# Altium integrated library WE-PD SMD Shielded Power Inductor.IntLib: 278 symbols (part 2 of 3)
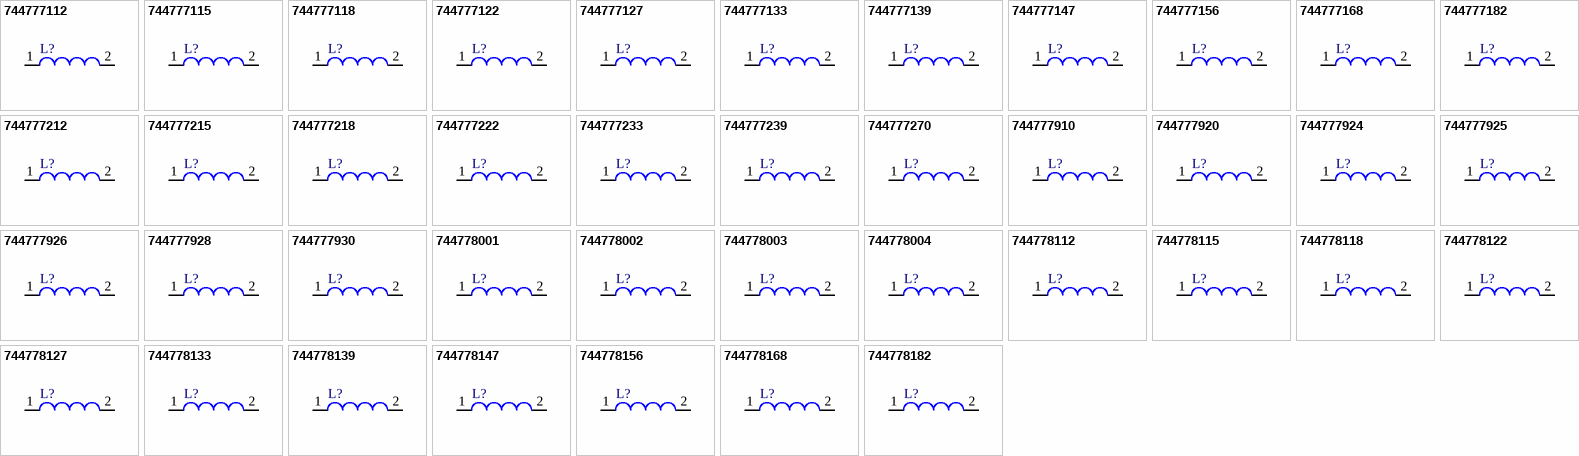
[diagram p7: symbols 744777112 to 744778182]

## 744777233
designator L?
SMD-Shielded Power Inductor WE-PD, L = 330 µH; PartNumber: 744777233; Inductance: 330 µH; DatasheetVersion: ver 2, Oct-2004; PackageReference: WE-PD-M; PackageDescription: SMD Inductor, 2-Leads, Body 7.3 x 7.3 mm; ComponentLink1Description: Manufacturer URL; ComponentLink1URL: http://www.we-online.com; ComponentLink2Description: Datasheet; ComponentLink2URL: http://www.we-online.de/katalog/media/pdf/744777233.pdf
footprint WE-PD-M (SMD Inductor, 2-Leads, Body 7.3x7.3x4.5 mm)
pins: 1, 2

## 744777239
designator L?
SMD-Shielded Power Inductor WE-PD, L = 390 µH; PartNumber: 744777239; Inductance: 390 µH; DatasheetVersion: ver 2, Oct-2004; PackageReference: WE-PD-M; PackageDescription: SMD Inductor, 2-Leads, Body 7.3 x 7.3 mm; ComponentLink1Description: Manufacturer URL; ComponentLink1URL: http://www.we-online.com; ComponentLink2Description: Datasheet; ComponentLink2URL: http://www.we-online.de/katalog/media/pdf/744777239.pdf
footprint WE-PD-M (SMD Inductor, 2-Leads, Body 7.3x7.3x4.5 mm)
pins: 1, 2

## 744777270
designator L?
SMD-Shielded Power Inductor WE-PD, L = 270 µH; PartNumber: 744777270; Inductance: 270 µH; DatasheetVersion: ver 2, Oct-2004; PackageReference: WE-PD-M; PackageDescription: SMD Inductor, 2-Leads, Body 7.3 x 7.3 mm; ComponentLink1Description: Manufacturer URL; ComponentLink1URL: http://www.we-online.com; ComponentLink2Description: Datasheet; ComponentLink2URL: http://www.we-online.de/katalog/media/pdf/744777270.pdf
footprint WE-PD-M (SMD Inductor, 2-Leads, Body 7.3x7.3x4.5 mm)
pins: 1, 2

## 744777910
designator L?
SMD-Shielded Power Inductor WE-PD, L = 10.0 µH; PartNumber: 744777910; Inductance: 10.0 µH; DatasheetVersion: ver 10, Jan-2008; PackageReference: WE-PD-M-PB; PackageDescription: SMD Inductor, 2-Leads, Body 7.3 x 7.3 mm; ComponentLink1Description: Manufacturer URL; ComponentLink1URL: http://www.we-online.com; ComponentLink2Description: Datasheet; ComponentLink2URL: http://www.we-online.de/katalog/media/pdf/744777910.pdf
footprint WE-PD-M-PB (SMD Inductor, 2-Leads, Body 7.3x7.3x4.5 mm)
pins: 1, 2

## 744777920
designator L?
SMD-Shielded Power Inductor WE-PD, L = 100 µH; PartNumber: 744777920; Inductance: 100 µH; DatasheetVersion: ver 10, Jan-2008; PackageReference: WE-PD-M-PB; PackageDescription: SMD Inductor, 2-Leads, Body 7.3 x 7.3 mm; ComponentLink1Description: Manufacturer URL; ComponentLink1URL: http://www.we-online.com; ComponentLink2Description: Datasheet; ComponentLink2URL: http://www.we-online.de/katalog/media/pdf/744777920.pdf
footprint WE-PD-M-PB (SMD Inductor, 2-Leads, Body 7.3x7.3x4.5 mm)
pins: 1, 2

## 744777924
designator L?
SMD-Shielded Power Inductor WE-PD, L = 470 µH; PartNumber: 744777924; Inductance: 470 µH; DatasheetVersion: ver 10, Jan-2008; PackageReference: WE-PD-M-PB; PackageDescription: SMD Inductor, 2-Leads, Body 7.3 x 7.3 mm; ComponentLink1Description: Manufacturer URL; ComponentLink1URL: http://www.we-online.com; ComponentLink2Description: Datasheet; ComponentLink2URL: http://www.we-online.de/katalog/media/pdf/744777924.pdf
footprint WE-PD-M-PB (SMD Inductor, 2-Leads, Body 7.3x7.3x4.5 mm)
pins: 1, 2

## 744777925
designator L?
SMD-Shielded Power Inductor WE-PD, L = 560 µH; PartNumber: 744777925; Inductance: 560 µH; DatasheetVersion: ver 10, Jan-2008; PackageReference: WE-PD-M-PB; PackageDescription: SMD Inductor, 2-Leads, Body 7.3 x 7.3 mm; ComponentLink1Description: Manufacturer URL; ComponentLink1URL: http://www.we-online.com; ComponentLink2Description: Datasheet; ComponentLink2URL: http://www.we-online.de/katalog/media/pdf/744777925.pdf
footprint WE-PD-M-PB (SMD Inductor, 2-Leads, Body 7.3x7.3x4.5 mm)
pins: 1, 2

## 744777926
designator L?
SMD-Shielded Power Inductor WE-PD, L = 680 µH; PartNumber: 744777926; Inductance: 680 µH; DatasheetVersion: ver 10, Jan-2008; PackageReference: WE-PD-M-PB; PackageDescription: SMD Inductor, 2-Leads, Body 7.3 x 7.3 mm; ComponentLink1Description: Manufacturer URL; ComponentLink1URL: http://www.we-online.com; ComponentLink2Description: Datasheet; ComponentLink2URL: http://www.we-online.de/katalog/media/pdf/744777926.pdf
footprint WE-PD-M-PB (SMD Inductor, 2-Leads, Body 7.3x7.3x4.5 mm)
pins: 1, 2

## 744777928
designator L?
SMD-Shielded Power Inductor WE-PD, L = 820 µH; PartNumber: 744777928; Inductance: 820 µH; DatasheetVersion: ver 10, Jan-2008; PackageReference: WE-PD-M-PB; PackageDescription: SMD Inductor, 2-Leads, Body 7.3 x 7.3 mm; ComponentLink1Description: Manufacturer URL; ComponentLink1URL: http://www.we-online.com; ComponentLink2Description: Datasheet; ComponentLink2URL: http://www.we-online.de/katalog/media/pdf/744777928.pdf
footprint WE-PD-M-PB (SMD Inductor, 2-Leads, Body 7.3x7.3x4.5 mm)
pins: 1, 2

## 744777930
designator L?
SMD-Shielded Power Inductor WE-PD, L = 1000 µH; PartNumber: 744777930; Inductance: 1000 µH; DatasheetVersion: ver 10, Jan-2008; PackageReference: WE-PD-M-PB; PackageDescription: SMD Inductor, 2-Leads, Body 7.3 x 7.3 mm; ComponentLink1Description: Manufacturer URL; ComponentLink1URL: http://www.we-online.com; ComponentLink2Description: Datasheet; ComponentLink2URL: http://www.we-online.de/katalog/media/pdf/744777930.pdf
footprint WE-PD-M-PB (SMD Inductor, 2-Leads, Body 7.3x7.3x4.5 mm)
pins: 1, 2

## 744778001
designator L?
SMD-Shielded Power Inductor WE-PD, L = 1.00 µH; PartNumber: 744778001; Inductance: 1.00 µH; DatasheetVersion: ver 5, Oct-2004; PackageReference: WE-PD-S; PackageDescription: SMD Inductor, 2-Leads, Body 7.3 x 7.3 mm; ComponentLink1Description: Manufacturer URL; ComponentLink1URL: http://www.we-online.com; ComponentLink2Description: Datasheet; ComponentLink2URL: http://www.we-online.de/katalog/media/pdf/744778001.pdf
footprint WE-PD-S (SMD Inductor, 2-Leads, Body 7.3x7.3x3.4 mm)
pins: 1, 2

## 744778002
designator L?
SMD-Shielded Power Inductor WE-PD, L = 2.20 µH; PartNumber: 744778002; Inductance: 2.20 µH; DatasheetVersion: ver 5, Oct-2004; PackageReference: WE-PD-S; PackageDescription: SMD Inductor, 2-Leads, Body 7.3 x 7.3 mm; ComponentLink1Description: Manufacturer URL; ComponentLink1URL: http://www.we-online.com; ComponentLink2Description: Datasheet; ComponentLink2URL: http://www.we-online.de/katalog/media/pdf/744778002.pdf
footprint WE-PD-S (SMD Inductor, 2-Leads, Body 7.3x7.3x3.4 mm)
pins: 1, 2

## 744778003
designator L?
SMD-Shielded Power Inductor WE-PD, L = 3.30 µH; PartNumber: 744778003; Inductance: 3.30 µH; DatasheetVersion: ver 1, Nov-2007; PackageReference: WE-PD-S; PackageDescription: SMD Inductor, 2-Leads, Body 7.3 x 7.3 mm; ComponentLink1Description: Manufacturer URL; ComponentLink1URL: http://www.we-online.com; ComponentLink2Description: Datasheet; ComponentLink2URL: http://www.we-online.de/katalog/media/pdf/744778003.pdf
footprint WE-PD-S (SMD Inductor, 2-Leads, Body 7.3x7.3x3.4 mm)
pins: 1, 2

## 744778004
designator L?
SMD-Shielded Power Inductor WE-PD, L = 4.70 µH; PartNumber: 744778004; Inductance: 4.70 µH; DatasheetVersion: ver 5, Oct-2004; PackageReference: WE-PD-S; PackageDescription: SMD Inductor, 2-Leads, Body 7.3 x 7.3 mm; ComponentLink1Description: Manufacturer URL; ComponentLink1URL: http://www.we-online.com; ComponentLink2Description: Datasheet; ComponentLink2URL: http://www.we-online.de/katalog/media/pdf/744778004.pdf
footprint WE-PD-S (SMD Inductor, 2-Leads, Body 7.3x7.3x3.4 mm)
pins: 1, 2

## 744778112
designator L?
SMD-Shielded Power Inductor WE-PD, L = 12.0 µH; PartNumber: 744778112; Inductance: 12.0 µH; DatasheetVersion: ver 5, Oct-2004; PackageReference: WE-PD-S; PackageDescription: SMD Inductor, 2-Leads, Body 7.3 x 7.3 mm; ComponentLink1Description: Manufacturer URL; ComponentLink1URL: http://www.we-online.com; ComponentLink2Description: Datasheet; ComponentLink2URL: http://www.we-online.de/katalog/media/pdf/744778112.pdf
footprint WE-PD-S (SMD Inductor, 2-Leads, Body 7.3x7.3x3.4 mm)
pins: 1, 2

## 744778115
designator L?
SMD-Shielded Power Inductor WE-PD, L = 15.0 µH; PartNumber: 744778115; Inductance: 15.0 µH; DatasheetVersion: ver 5, Oct-2004; PackageReference: WE-PD-S; PackageDescription: SMD Inductor, 2-Leads, Body 7.3 x 7.3 mm; ComponentLink1Description: Manufacturer URL; ComponentLink1URL: http://www.we-online.com; ComponentLink2Description: Datasheet; ComponentLink2URL: http://www.we-online.de/katalog/media/pdf/744778115.pdf
footprint WE-PD-S (SMD Inductor, 2-Leads, Body 7.3x7.3x3.4 mm)
pins: 1, 2

## 744778118
designator L?
SMD-Shielded Power Inductor WE-PD, L = 18.0 µH; PartNumber: 744778118; Inductance: 18.0 µH; DatasheetVersion: ver 5, Oct-2004; PackageReference: WE-PD-S; PackageDescription: SMD Inductor, 2-Leads, Body 7.3 x 7.3 mm; ComponentLink1Description: Manufacturer URL; ComponentLink1URL: http://www.we-online.com; ComponentLink2Description: Datasheet; ComponentLink2URL: http://www.we-online.de/katalog/media/pdf/744778118.pdf
footprint WE-PD-S (SMD Inductor, 2-Leads, Body 7.3x7.3x3.4 mm)
pins: 1, 2

## 744778122
designator L?
SMD-Shielded Power Inductor WE-PD, L = 22.0 µH; PartNumber: 744778122; Inductance: 22.0 µH; DatasheetVersion: ver 5, Oct-2004; PackageReference: WE-PD-S; PackageDescription: SMD Inductor, 2-Leads, Body 7.3 x 7.3 mm; ComponentLink1Description: Manufacturer URL; ComponentLink1URL: http://www.we-online.com; ComponentLink2Description: Datasheet; ComponentLink2URL: http://www.we-online.de/katalog/media/pdf/744778122.pdf
footprint WE-PD-S (SMD Inductor, 2-Leads, Body 7.3x7.3x3.4 mm)
pins: 1, 2

## 744778127
designator L?
SMD-Shielded Power Inductor WE-PD, L = 27.0 µH; PartNumber: 744778127; Inductance: 27.0 µH; DatasheetVersion: ver 5, Oct-2004; PackageReference: WE-PD-S; PackageDescription: SMD Inductor, 2-Leads, Body 7.3 x 7.3 mm; ComponentLink1Description: Manufacturer URL; ComponentLink1URL: http://www.we-online.com; ComponentLink2Description: Datasheet; ComponentLink2URL: http://www.we-online.de/katalog/media/pdf/744778127.pdf
footprint WE-PD-S (SMD Inductor, 2-Leads, Body 7.3x7.3x3.4 mm)
pins: 1, 2

## 744778133
designator L?
SMD-Shielded Power Inductor WE-PD, L = 33.0 µH; PartNumber: 744778133; Inductance: 33.0 µH; DatasheetVersion: ver 5, Oct-2004; PackageReference: WE-PD-S; PackageDescription: SMD Inductor, 2-Leads, Body 7.3 x 7.3 mm; ComponentLink1Description: Manufacturer URL; ComponentLink1URL: http://www.we-online.com; ComponentLink2Description: Datasheet; ComponentLink2URL: http://www.we-online.de/katalog/media/pdf/744778133.pdf
footprint WE-PD-S (SMD Inductor, 2-Leads, Body 7.3x7.3x3.4 mm)
pins: 1, 2

## 744778139
designator L?
SMD-Shielded Power Inductor WE-PD, L = 39.0 µH; PartNumber: 744778139; Inductance: 39.0 µH; DatasheetVersion: ver 5, Oct-2004; PackageReference: WE-PD-S; PackageDescription: SMD Inductor, 2-Leads, Body 7.3 x 7.3 mm; ComponentLink1Description: Manufacturer URL; ComponentLink1URL: http://www.we-online.com; ComponentLink2Description: Datasheet; ComponentLink2URL: http://www.we-online.de/katalog/media/pdf/744778139.pdf
footprint WE-PD-S (SMD Inductor, 2-Leads, Body 7.3x7.3x3.4 mm)
pins: 1, 2

## 744778147
designator L?
SMD-Shielded Power Inductor WE-PD, L = 47.0 µH; PartNumber: 744778147; Inductance: 47.0 µH; DatasheetVersion: ver 5, Oct-2004; PackageReference: WE-PD-S; PackageDescription: SMD Inductor, 2-Leads, Body 7.3 x 7.3 mm; ComponentLink1Description: Manufacturer URL; ComponentLink1URL: http://www.we-online.com; ComponentLink2Description: Datasheet; ComponentLink2URL: http://www.we-online.de/katalog/media/pdf/744778147.pdf
footprint WE-PD-S (SMD Inductor, 2-Leads, Body 7.3x7.3x3.4 mm)
pins: 1, 2

## 744778156
designator L?
SMD-Shielded Power Inductor WE-PD, L = 56.0 µH; PartNumber: 744778156; Inductance: 56.0 µH; DatasheetVersion: ver 5, Oct-2004; PackageReference: WE-PD-S; PackageDescription: SMD Inductor, 2-Leads, Body 7.3 x 7.3 mm; ComponentLink1Description: Manufacturer URL; ComponentLink1URL: http://www.we-online.com; ComponentLink2Description: Datasheet; ComponentLink2URL: http://www.we-online.de/katalog/media/pdf/744778156.pdf
footprint WE-PD-S (SMD Inductor, 2-Leads, Body 7.3x7.3x3.4 mm)
pins: 1, 2

## 744778168
designator L?
SMD-Shielded Power Inductor WE-PD, L = 68.0 µH; PartNumber: 744778168; Inductance: 68.0 µH; DatasheetVersion: ver 5, Oct-2004; PackageReference: WE-PD-S; PackageDescription: SMD Inductor, 2-Leads, Body 7.3 x 7.3 mm; ComponentLink1Description: Manufacturer URL; ComponentLink1URL: http://www.we-online.com; ComponentLink2Description: Datasheet; ComponentLink2URL: http://www.we-online.de/katalog/media/pdf/744778168.pdf
footprint WE-PD-S (SMD Inductor, 2-Leads, Body 7.3x7.3x3.4 mm)
pins: 1, 2

## 744778182
designator L?
SMD-Shielded Power Inductor WE-PD, L = 82.0 µH; PartNumber: 744778182; Inductance: 82.0 µH; DatasheetVersion: ver 5, Oct-2004; PackageReference: WE-PD-S; PackageDescription: SMD Inductor, 2-Leads, Body 7.3 x 7.3 mm; ComponentLink1Description: Manufacturer URL; ComponentLink1URL: http://www.we-online.com; ComponentLink2Description: Datasheet; ComponentLink2URL: http://www.we-online.de/katalog/media/pdf/744778182.pdf
footprint WE-PD-S (SMD Inductor, 2-Leads, Body 7.3x7.3x3.4 mm)
pins: 1, 2

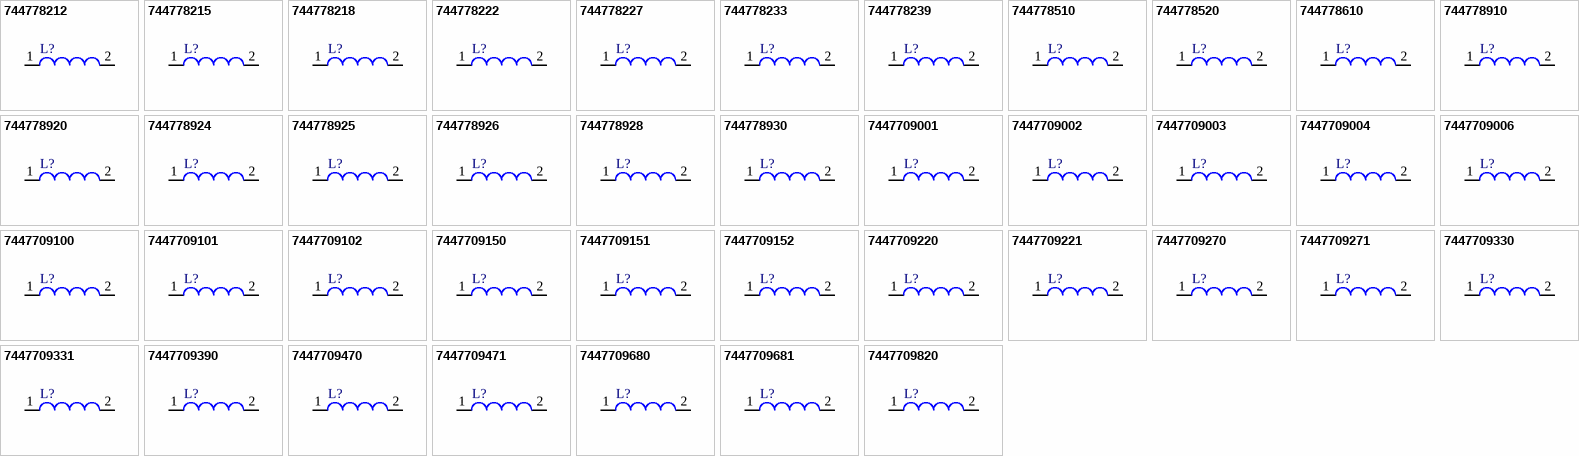
[diagram p3: symbols 744778212 to 7447709820]

## 744778212
designator L?
SMD-Shielded Power Inductor WE-PD, L = 120 µH; PartNumber: 744778212; Inductance: 120 µH; DatasheetVersion: ver 5, Oct-2004; PackageReference: WE-PD-S; PackageDescription: SMD Inductor, 2-Leads, Body 7.3 x 7.3 mm; ComponentLink1Description: Manufacturer URL; ComponentLink1URL: http://www.we-online.com; ComponentLink2Description: Datasheet; ComponentLink2URL: http://www.we-online.de/katalog/media/pdf/744778212.pdf
footprint WE-PD-S (SMD Inductor, 2-Leads, Body 7.3x7.3x3.4 mm)
pins: 1, 2

## 744778215
designator L?
SMD-Shielded Power Inductor WE-PD, L = 150 µH; PartNumber: 744778215; Inductance: 150 µH; DatasheetVersion: ver 5, Oct-2004; PackageReference: WE-PD-S; PackageDescription: SMD Inductor, 2-Leads, Body 7.3 x 7.3 mm; ComponentLink1Description: Manufacturer URL; ComponentLink1URL: http://www.we-online.com; ComponentLink2Description: Datasheet; ComponentLink2URL: http://www.we-online.de/katalog/media/pdf/744778215.pdf
footprint WE-PD-S (SMD Inductor, 2-Leads, Body 7.3x7.3x3.4 mm)
pins: 1, 2

## 744778218
designator L?
SMD-Shielded Power Inductor WE-PD, L = 180 µH; PartNumber: 744778218; Inductance: 180 µH; DatasheetVersion: ver 5, Oct-2004; PackageReference: WE-PD-S; PackageDescription: SMD Inductor, 2-Leads, Body 7.3 x 7.3 mm; ComponentLink1Description: Manufacturer URL; ComponentLink1URL: http://www.we-online.com; ComponentLink2Description: Datasheet; ComponentLink2URL: http://www.we-online.de/katalog/media/pdf/744778218.pdf
footprint WE-PD-S (SMD Inductor, 2-Leads, Body 7.3x7.3x3.4 mm)
pins: 1, 2

## 744778222
designator L?
SMD-Shielded Power Inductor WE-PD, L = 220 µH; PartNumber: 744778222; Inductance: 220 µH; DatasheetVersion: ver 5, Oct-2004; PackageReference: WE-PD-S; PackageDescription: SMD Inductor, 2-Leads, Body 7.3 x 7.3 mm; ComponentLink1Description: Manufacturer URL; ComponentLink1URL: http://www.we-online.com; ComponentLink2Description: Datasheet; ComponentLink2URL: http://www.we-online.de/katalog/media/pdf/744778222.pdf
footprint WE-PD-S (SMD Inductor, 2-Leads, Body 7.3x7.3x3.4 mm)
pins: 1, 2

## 744778227
designator L?
SMD-Shielded Power Inductor WE-PD, L=270 µH; PartNumber: 744778227; Inductance: 270 µH; PackageReference: WE-PD-S; PackageDescription: SMD Inductor, 2-Leads, Body 7.3 x 7.3 mm; ComponentLink1Description: Manufacturer URL; ComponentLink1URL: http://www.we-online.com; ComponentLink2Description: Datasheet; ComponentLink2URL: http://www.we-online.de/katalog/media/pdf/744778227.pdf
footprint WE-PD-S (SMD Inductor, 2-Leads, Body 7.3x7.3x3.4 mm)
pins: 1, 2

## 744778233
designator L?
SMD-Shielded Power Inductor WE-PD, L = 330 µH; PartNumber: 744778233; Inductance: 330 µH; DatasheetVersion: ver 6, Jan-2006; PackageReference: WE-PD-S; PackageDescription: SMD Inductor, 2-Leads, Body 7.3 x 7.3 mm; ComponentLink1Description: Manufacturer URL; ComponentLink1URL: http://www.we-online.com; ComponentLink2Description: Datasheet; ComponentLink2URL: http://www.we-online.de/katalog/media/pdf/744778233.pdf
footprint WE-PD-S (SMD Inductor, 2-Leads, Body 7.3x7.3x3.4 mm)
pins: 1, 2

## 744778239
designator L?
SMD-Shielded Power Inductor WE-PD, L = 390 µH; PartNumber: 744778239; Inductance: 390 µH; DatasheetVersion: ver 5, Oct-2004; PackageReference: WE-PD-S; PackageDescription: SMD Inductor, 2-Leads, Body 7.3 x 7.3 mm; ComponentLink1Description: Manufacturer URL; ComponentLink1URL: http://www.we-online.com; ComponentLink2Description: Datasheet; ComponentLink2URL: http://www.we-online.de/katalog/media/pdf/744778239.pdf
footprint WE-PD-S (SMD Inductor, 2-Leads, Body 7.3x7.3x3.4 mm)
pins: 1, 2

## 744778510
designator L?
SMD-Shielded Power Inductor WE-PD, L = 10.0 µH; PartNumber: 744778510; Inductance: 10.0 µH; DatasheetVersion: ver 2, Oct-2004; PackageReference: WE-PD-XS-PB; PackageDescription: SMD Inductor, 2-Leads, Body 5.9 x 6.2 mm; ComponentLink1Description: Manufacturer URL; ComponentLink1URL: http://www.we-online.com; ComponentLink2Description: Datasheet; ComponentLink2URL: http://www.we-online.de/katalog/media/pdf/744778510.pdf
footprint WE-PD-XS-PB (SMD Inductor, 2-Leads, Body 5.9x6.2x3.3 mm)
pins: 1, 2

## 744778520
designator L?
SMD-Shielded Power Inductor WE-PD, L = 100 µH; PartNumber: 744778520; Inductance: 100 µH; DatasheetVersion: ver 2, Oct-2004; PackageReference: WE-PD-XS-PB; PackageDescription: SMD Inductor, 2-Leads, Body 5.9 x 6.2 mm; ComponentLink1Description: Manufacturer URL; ComponentLink1URL: http://www.we-online.com; ComponentLink2Description: Datasheet; ComponentLink2URL: http://www.we-online.de/katalog/media/pdf/744778520.pdf
footprint WE-PD-XS-PB (SMD Inductor, 2-Leads, Body 5.9x6.2x3.3 mm)
pins: 1, 2

## 744778610
designator L?
SMD-Shielded Power Inductor WE-PD, L = 10.0 µH; PartNumber: 744778610; Inductance: 10.0 µH; DatasheetVersion: ver 1, Sep-2008; PackageReference: WE-PD-XSH-PB; PackageDescription: SMD Inductor, 2-Leads, Body 5.9 x 6.2 mm; ComponentLink1Description: Manufacturer URL; ComponentLink1URL: http://www.we-online.com; ComponentLink2Description: Datasheet; ComponentLink2URL: http://www.we-online.de/katalog/media/pdf/744778610.pdf
footprint WE-PD-XSH-PB (SMD Inductor, 2-Leads, Body 5.9x6.2x5.1 mm)
pins: 1, 2

## 744778910
designator L?
SMD-Shielded Power Inductor WE-PD, L = 10.0 µH; PartNumber: 744778910; Inductance: 10.0 µH; DatasheetVersion: ver 5, Jan-2006; PackageReference: WE-PD-S-PB; PackageDescription: SMD Inductor, 2-Leads, Body 7.3 x 7.3 mm; ComponentLink1Description: Manufacturer URL; ComponentLink1URL: http://www.we-online.com; ComponentLink2Description: Datasheet; ComponentLink2URL: http://www.we-online.de/katalog/media/pdf/744778910.pdf
footprint WE-PD-S-PB (SMD Inductor, 2-Leads, Body 7.3x7.3x3.5 mm)
pins: 1, 2

## 744778920
designator L?
SMD-Shielded Power Inductor WE-PD, L = 100 µH; PartNumber: 744778920; Inductance: 100 µH; DatasheetVersion: ver 5, Jan-2006; PackageReference: WE-PD-S-PB; PackageDescription: SMD Inductor, 2-Leads, Body 7.3 x 7.3 mm; ComponentLink1Description: Manufacturer URL; ComponentLink1URL: http://www.we-online.com; ComponentLink2Description: Datasheet; ComponentLink2URL: http://www.we-online.de/katalog/media/pdf/744778920.pdf
footprint WE-PD-S-PB (SMD Inductor, 2-Leads, Body 7.3x7.3x3.5 mm)
pins: 1, 2

## 744778924
designator L?
SMD-Shielded Power Inductor WE-PD, L = 470 µH; PartNumber: 744778924; Inductance: 470 µH; DatasheetVersion: ver 5, Jan-2006; PackageReference: WE-PD-S-PB; PackageDescription: SMD Inductor, 2-Leads, Body 7.3 x 7.3 mm; ComponentLink1Description: Manufacturer URL; ComponentLink1URL: http://www.we-online.com; ComponentLink2Description: Datasheet; ComponentLink2URL: http://www.we-online.de/katalog/media/pdf/744778924.pdf
footprint WE-PD-S-PB (SMD Inductor, 2-Leads, Body 7.3x7.3x3.5 mm)
pins: 1, 2

## 744778925
designator L?
SMD-Shielded Power Inductor WE-PD, L = 560 µH; PartNumber: 744778925; Inductance: 560 µH; DatasheetVersion: ver 5, Jan-2006; PackageReference: WE-PD-S-PB; PackageDescription: SMD Inductor, 2-Leads, Body 7.3 x 7.3 mm; ComponentLink1Description: Manufacturer URL; ComponentLink1URL: http://www.we-online.com; ComponentLink2Description: Datasheet; ComponentLink2URL: http://www.we-online.de/katalog/media/pdf/744778925.pdf
footprint WE-PD-S-PB (SMD Inductor, 2-Leads, Body 7.3x7.3x3.5 mm)
pins: 1, 2

## 744778926
designator L?
SMD-Shielded Power Inductor WE-PD, L = 680 µH; PartNumber: 744778926; Inductance: 680 µH; DatasheetVersion: ver 5, Jan-2006; PackageReference: WE-PD-S-PB; PackageDescription: SMD Inductor, 2-Leads, Body 7.3 x 7.3 mm; ComponentLink1Description: Manufacturer URL; ComponentLink1URL: http://www.we-online.com; ComponentLink2Description: Datasheet; ComponentLink2URL: http://www.we-online.de/katalog/media/pdf/744778926.pdf
footprint WE-PD-S-PB (SMD Inductor, 2-Leads, Body 7.3x7.3x3.5 mm)
pins: 1, 2

## 744778928
designator L?
SMD-Shielded Power Inductor WE-PD, L = 820 µH; PartNumber: 744778928; Inductance: 820 µH; DatasheetVersion: ver 5, Jan-2006; PackageReference: WE-PD-S-PB; PackageDescription: SMD Inductor, 2-Leads, Body 7.3 x 7.3 mm; ComponentLink1Description: Manufacturer URL; ComponentLink1URL: http://www.we-online.com; ComponentLink2Description: Datasheet; ComponentLink2URL: http://www.we-online.de/katalog/media/pdf/744778928.pdf
footprint WE-PD-S-PB (SMD Inductor, 2-Leads, Body 7.3x7.3x3.5 mm)
pins: 1, 2

## 744778930
designator L?
SMD-Shielded Power Inductor WE-PD, L = 1000 µH; PartNumber: 744778930; Inductance: 1000 µH; DatasheetVersion: ver 5, Jan-2006; PackageReference: WE-PD-S-PB; PackageDescription: SMD Inductor, 2-Leads, Body 7.3 x 7.3 mm; ComponentLink1Description: Manufacturer URL; ComponentLink1URL: http://www.we-online.com; ComponentLink2Description: Datasheet; ComponentLink2URL: http://www.we-online.de/katalog/media/pdf/744778930.pdf
footprint WE-PD-S-PB (SMD Inductor, 2-Leads, Body 7.3x7.3x3.5 mm)
pins: 1, 2

## 7447709001
designator L?
SMD-Shielded Power Inductor WE-PD, L = 1.00 µH; PartNumber: 7447709001; Inductance: 1.00 µH; DatasheetVersion: ver 1, Oct-2004; PackageReference: WE-PD-XXL; PackageDescription: SMD Inductor, 2-Leads, Body 12.0 x 12.0 mm; ComponentLink1Description: Manufacturer URL; ComponentLink1URL: http://www.we-online.com; ComponentLink2Description: Datasheet; ComponentLink2URL: http://www.we-online.de/katalog/media/pdf/7447709001.pdf
footprint WE-PD-XXL (SMD Inductor, 2-Leads, Body 12.0x12.0x10.0 mm)
pins: 1, 2

## 7447709002
designator L?
SMD-Shielded Power Inductor WE-PD, L = 2.20 µH; PartNumber: 7447709002; Inductance: 2.20 µH; DatasheetVersion: ver 1, Oct-2004; PackageReference: WE-PD-XXL; PackageDescription: SMD Inductor, 2-Leads, Body 12.0 x 12.0 mm; ComponentLink1Description: Manufacturer URL; ComponentLink1URL: http://www.we-online.com; ComponentLink2Description: Datasheet; ComponentLink2URL: http://www.we-online.de/katalog/media/pdf/7447709002.pdf
footprint WE-PD-XXL (SMD Inductor, 2-Leads, Body 12.0x12.0x10.0 mm)
pins: 1, 2

## 7447709003
designator L?
SMD-Shielded Power Inductor WE-PD, L = 3.50 µH; PartNumber: 7447709003; Inductance: 3.50 µH; DatasheetVersion: ver 1, Oct-2004; PackageReference: WE-PD-XXL; PackageDescription: SMD Inductor, 2-Leads, Body 12.0 x 12.0 mm; ComponentLink1Description: Manufacturer URL; ComponentLink1URL: http://www.we-online.com; ComponentLink2Description: Datasheet; ComponentLink2URL: http://www.we-online.de/katalog/media/pdf/7447709003.pdf
footprint WE-PD-XXL (SMD Inductor, 2-Leads, Body 12.0x12.0x10.0 mm)
pins: 1, 2

## 7447709004
designator L?
SMD-Shielded Power Inductor WE-PD, L = 4.70 µH; PartNumber: 7447709004; Inductance: 4.70 µH; DatasheetVersion: ver 1, Oct-2004; PackageReference: WE-PD-XXL; PackageDescription: SMD Inductor, 2-Leads, Body 12.0 x 12.0 mm; ComponentLink1Description: Manufacturer URL; ComponentLink1URL: http://www.we-online.com; ComponentLink2Description: Datasheet; ComponentLink2URL: http://www.we-online.de/katalog/media/pdf/7447709004.pdf
footprint WE-PD-XXL (SMD Inductor, 2-Leads, Body 12.0x12.0x10.0 mm)
pins: 1, 2

## 7447709006
designator L?
SMD-Shielded Power Inductor WE-PD, L = 6.80 µH; PartNumber: 7447709006; Inductance: 6.80 µH; DatasheetVersion: ver 1, Oct-2004; PackageReference: WE-PD-XXL; PackageDescription: SMD Inductor, 2-Leads, Body 12.0 x 12.0 mm; ComponentLink1Description: Manufacturer URL; ComponentLink1URL: http://www.we-online.com; ComponentLink2Description: Datasheet; ComponentLink2URL: http://www.we-online.de/katalog/media/pdf/7447709006.pdf
footprint WE-PD-XXL (SMD Inductor, 2-Leads, Body 12.0x12.0x10.0 mm)
pins: 1, 2

## 7447709100
designator L?
SMD-Shielded Power Inductor WE-PD, L = 10.0 µH; PartNumber: 7447709100; Inductance: 10.0 µH; DatasheetVersion: ver 1, Oct-2004; PackageReference: WE-PD-XXL; PackageDescription: SMD Inductor, 2-Leads, Body 12.0 x 12.0 mm; ComponentLink1Description: Manufacturer URL; ComponentLink1URL: http://www.we-online.com; ComponentLink2Description: Datasheet; ComponentLink2URL: http://www.we-online.de/katalog/media/pdf/7447709100.pdf
footprint WE-PD-XXL (SMD Inductor, 2-Leads, Body 12.0x12.0x10.0 mm)
pins: 1, 2

## 7447709101
designator L?
SMD-Shielded Power Inductor WE-PD, L = 100 µH; PartNumber: 7447709101; Inductance: 100 µH; DatasheetVersion: ver 1, Oct-2004; PackageReference: WE-PD-XXL; PackageDescription: SMD Inductor, 2-Leads, Body 12.0 x 12.0 mm; ComponentLink1Description: Manufacturer URL; ComponentLink1URL: http://www.we-online.com; ComponentLink2Description: Datasheet; ComponentLink2URL: http://www.we-online.de/katalog/media/pdf/7447709101.pdf
footprint WE-PD-XXL (SMD Inductor, 2-Leads, Body 12.0x12.0x10.0 mm)
pins: 1, 2

## 7447709102
designator L?
SMD-Shielded Power Inductor WE-PD, L = 1000 µH; PartNumber: 7447709102; Inductance: 1000 µH; DatasheetVersion: ver 1, Aug-2005; PackageReference: WE-PD-XXL; PackageDescription: SMD Inductor, 2-Leads, Body 12.0 x 12.0 mm; ComponentLink1Description: Manufacturer URL; ComponentLink1URL: http://www.we-online.com; ComponentLink2Description: Datasheet; ComponentLink2URL: http://www.we-online.de/katalog/media/pdf/7447709102.pdf
footprint WE-PD-XXL (SMD Inductor, 2-Leads, Body 12.0x12.0x10.0 mm)
pins: 1, 2

## 7447709150
designator L?
SMD-Shielded Power Inductor WE-PD, L = 15.0 µH; PartNumber: 7447709150; Inductance: 15.0 µH; DatasheetVersion: ver 4, Oct-2006; PackageReference: WE-PD-XXL; PackageDescription: SMD Inductor, 2-Leads, Body 12.0 x 12.0 mm; ComponentLink1Description: Manufacturer URL; ComponentLink1URL: http://www.we-online.com; ComponentLink2Description: Datasheet; ComponentLink2URL: http://www.we-online.de/katalog/media/pdf/7447709150.pdf
footprint WE-PD-XXL (SMD Inductor, 2-Leads, Body 12.0x12.0x10.0 mm)
pins: 1, 2

## 7447709151
designator L?
SMD-Shielded Power Inductor WE-PD, L = 150 µH; PartNumber: 7447709151; Inductance: 150 µH; DatasheetVersion: ver 1, Oct-2004; PackageReference: WE-PD-XXL; PackageDescription: SMD Inductor, 2-Leads, Body 12.0 x 12.0 mm; ComponentLink1Description: Manufacturer URL; ComponentLink1URL: http://www.we-online.com; ComponentLink2Description: Datasheet; ComponentLink2URL: http://www.we-online.de/katalog/media/pdf/7447709151.pdf
footprint WE-PD-XXL (SMD Inductor, 2-Leads, Body 12.0x12.0x10.0 mm)
pins: 1, 2

## 7447709152
designator L?
SMD-Shielded Power Inductor WE-PD, L = 1500 µH; PartNumber: 7447709152; Inductance: 1500 µH; DatasheetVersion: ver 1, Aug-2006; PackageReference: WE-PD-XXL; PackageDescription: SMD Inductor, 2-Leads, Body 12.0 x 12.0 mm; ComponentLink1Description: Manufacturer URL; ComponentLink1URL: http://www.we-online.com; ComponentLink2Description: Datasheet; ComponentLink2URL: http://www.we-online.de/katalog/media/pdf/7447709152.pdf
footprint WE-PD-XXL (SMD Inductor, 2-Leads, Body 12.0x12.0x10.0 mm)
pins: 1, 2

## 7447709220
designator L?
SMD-Shielded Power Inductor WE-PD, L = 22.0 µH; PartNumber: 7447709220; Inductance: 22.0 µH; DatasheetVersion: ver 1, Oct-2004; PackageReference: WE-PD-XXL; PackageDescription: SMD Inductor, 2-Leads, Body 12.0 x 12.0 mm; ComponentLink1Description: Manufacturer URL; ComponentLink1URL: http://www.we-online.com; ComponentLink2Description: Datasheet; ComponentLink2URL: http://www.we-online.de/katalog/media/pdf/7447709220.pdf
footprint WE-PD-XXL (SMD Inductor, 2-Leads, Body 12.0x12.0x10.0 mm)
pins: 1, 2

## 7447709221
designator L?
SMD-Shielded Power Inductor WE-PD, L = 220 µH; PartNumber: 7447709221; Inductance: 220 µH; DatasheetVersion: ver 1, Oct-2004; PackageReference: WE-PD-XXL; PackageDescription: SMD Inductor, 2-Leads, Body 12.0 x 12.0 mm; ComponentLink1Description: Manufacturer URL; ComponentLink1URL: http://www.we-online.com; ComponentLink2Description: Datasheet; ComponentLink2URL: http://www.we-online.de/katalog/media/pdf/7447709221.pdf
footprint WE-PD-XXL (SMD Inductor, 2-Leads, Body 12.0x12.0x10.0 mm)
pins: 1, 2

## 7447709270
designator L?
SMD-Shielded Power Inductor WE-PD, L = 27.0 µH; PartNumber: 7447709270; Inductance: 27.0 µH; DatasheetVersion: ver 1, Feb-2006; PackageReference: WE-PD-XXL; PackageDescription: SMD Inductor, 2-Leads, Body 12.0 x 12.0 mm; ComponentLink1Description: Manufacturer URL; ComponentLink1URL: http://www.we-online.com; ComponentLink2Description: Datasheet; ComponentLink2URL: http://www.we-online.de/katalog/media/pdf/7447709270.pdf
footprint WE-PD-XXL (SMD Inductor, 2-Leads, Body 12.0x12.0x10.0 mm)
pins: 1, 2

## 7447709271
designator L?
SMD-Shielded Power Inductor WE-PD, L = 270 µH; PartNumber: 7447709271; Inductance: 270 µH; DatasheetVersion: ver 1, Oct-2004; PackageReference: WE-PD-XXL; PackageDescription: SMD Inductor, 2-Leads, Body 12.0 x 12.0 mm; ComponentLink1Description: Manufacturer URL; ComponentLink1URL: http://www.we-online.com; ComponentLink2Description: Datasheet; ComponentLink2URL: http://www.we-online.de/katalog/media/pdf/7447709271.pdf
footprint WE-PD-XXL (SMD Inductor, 2-Leads, Body 12.0x12.0x10.0 mm)
pins: 1, 2

## 7447709330
designator L?
SMD-Shielded Power Inductor WE-PD, L = 33.0 µH; PartNumber: 7447709330; Inductance: 33.0 µH; DatasheetVersion: ver 1, Oct-2004; PackageReference: WE-PD-XXL; PackageDescription: SMD Inductor, 2-Leads, Body 12.0 x 12.0 mm; ComponentLink1Description: Manufacturer URL; ComponentLink1URL: http://www.we-online.com; ComponentLink2Description: Datasheet; ComponentLink2URL: http://www.we-online.de/katalog/media/pdf/7447709330.pdf
footprint WE-PD-XXL (SMD Inductor, 2-Leads, Body 12.0x12.0x10.0 mm)
pins: 1, 2

## 7447709331
designator L?
SMD-Shielded Power Inductor WE-PD, L = 330 µH; PartNumber: 7447709331; Inductance: 330 µH; DatasheetVersion: ver 1, Oct-2004; PackageReference: WE-PD-XXL; PackageDescription: SMD Inductor, 2-Leads, Body 12.0 x 12.0 mm; ComponentLink1Description: Manufacturer URL; ComponentLink1URL: http://www.we-online.com; ComponentLink2Description: Datasheet; ComponentLink2URL: http://www.we-online.de/katalog/media/pdf/7447709331.pdf
footprint WE-PD-XXL (SMD Inductor, 2-Leads, Body 12.0x12.0x10.0 mm)
pins: 1, 2

## 7447709390
designator L?
SMD-Shielded Power Inductor WE-PD, L = 39.0 µH; PartNumber: 7447709390; Inductance: 39.0 µH; DatasheetVersion: ver 2, Jun-2006; PackageReference: WE-PD-XXL; PackageDescription: SMD Inductor, 2-Leads, Body 12.0 x 12.0 mm; ComponentLink1Description: Manufacturer URL; ComponentLink1URL: http://www.we-online.com; ComponentLink2Description: Datasheet; ComponentLink2URL: http://www.we-online.de/katalog/media/pdf/7447709390.pdf
footprint WE-PD-XXL (SMD Inductor, 2-Leads, Body 12.0x12.0x10.0 mm)
pins: 1, 2

## 7447709470
designator L?
SMD-Shielded Power Inductor WE-PD, L = 47.0 µH; PartNumber: 7447709470; Inductance: 47.0 µH; DatasheetVersion: ver 1, Oct-2004; PackageReference: WE-PD-XXL; PackageDescription: SMD Inductor, 2-Leads, Body 12.0 x 12.0 mm; ComponentLink1Description: Manufacturer URL; ComponentLink1URL: http://www.we-online.com; ComponentLink2Description: Datasheet; ComponentLink2URL: http://www.we-online.de/katalog/media/pdf/7447709470.pdf
footprint WE-PD-XXL (SMD Inductor, 2-Leads, Body 12.0x12.0x10.0 mm)
pins: 1, 2

## 7447709471
designator L?
SMD-Shielded Power Inductor WE-PD, L = 470 µH; PartNumber: 7447709471; Inductance: 470 µH; DatasheetVersion: ver 1, Oct-2004; PackageReference: WE-PD-XXL; PackageDescription: SMD Inductor, 2-Leads, Body 12.0 x 12.0 mm; ComponentLink1Description: Manufacturer URL; ComponentLink1URL: http://www.we-online.com; ComponentLink2Description: Datasheet; ComponentLink2URL: http://www.we-online.de/katalog/media/pdf/7447709471.pdf
footprint WE-PD-XXL (SMD Inductor, 2-Leads, Body 12.0x12.0x10.0 mm)
pins: 1, 2

## 7447709680
designator L?
SMD-Shielded Power Inductor WE-PD, L = 68.0 µH; PartNumber: 7447709680; Inductance: 68.0 µH; DatasheetVersion: ver 1, Oct-2004; PackageReference: WE-PD-XXL; PackageDescription: SMD Inductor, 2-Leads, Body 12.0 x 12.0 mm; ComponentLink1Description: Manufacturer URL; ComponentLink1URL: http://www.we-online.com; ComponentLink2Description: Datasheet; ComponentLink2URL: http://www.we-online.de/katalog/media/pdf/7447709680.pdf
footprint WE-PD-XXL (SMD Inductor, 2-Leads, Body 12.0x12.0x10.0 mm)
pins: 1, 2

## 7447709681
designator L?
SMD-Shielded Power Inductor WE-PD, L = 680 µH; PartNumber: 7447709681; Inductance: 680 µH; DatasheetVersion: ver 1, Oct-2007; PackageReference: WE-PD-XXL; PackageDescription: SMD Inductor, 2-Leads, Body 12.0 x 12.0 mm; ComponentLink1Description: Manufacturer URL; ComponentLink1URL: http://www.we-online.com; ComponentLink2Description: Datasheet; ComponentLink2URL: http://www.we-online.de/katalog/media/pdf/7447709681.pdf
footprint WE-PD-XXL (SMD Inductor, 2-Leads, Body 12.0x12.0x10.0 mm)
pins: 1, 2

## 7447709820
designator L?
SMD-Shielded Power Inductor WE-PD, L=82.0 µH; PartNumber: 7447709820; Inductance: 82.0 µH; PackageReference: WE-PD-XXL; PackageDescription: SMD Inductor, 2-Leads, Body 12.0 x 12.0 mm; ComponentLink1Description: Manufacturer URL; ComponentLink1URL: http://www.we-online.com; ComponentLink2Description: Datasheet; ComponentLink2URL: http://www.we-online.de/katalog/media/pdf/7447709820.pdf
footprint WE-PD-XXL (SMD Inductor, 2-Leads, Body 12.0x12.0x10.0 mm)
pins: 1, 2

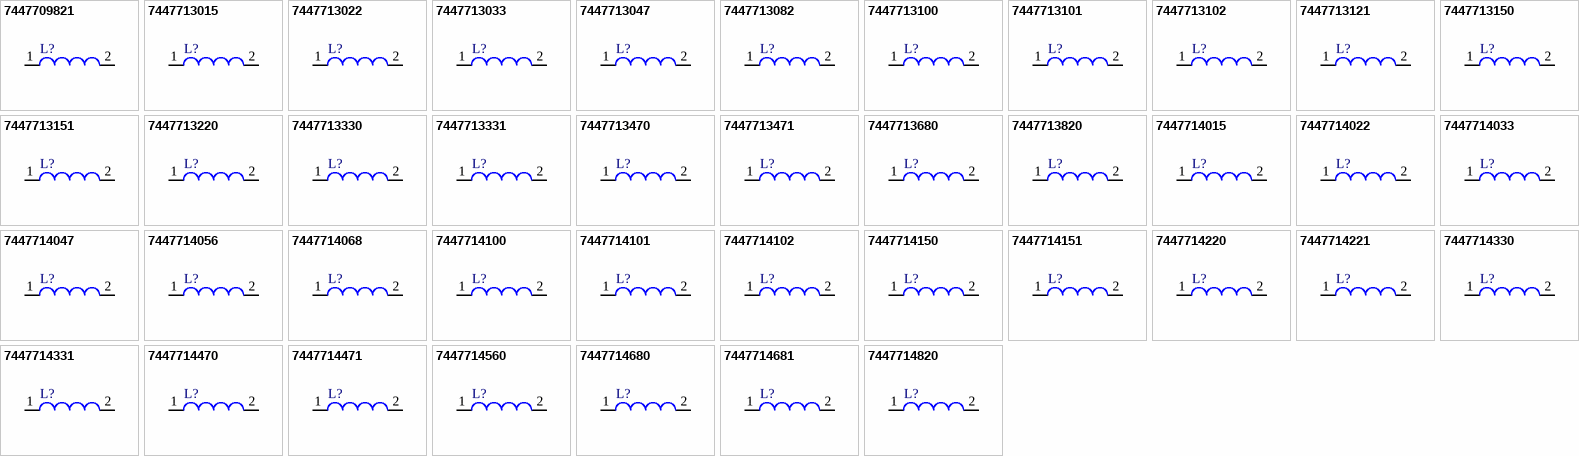
[diagram p4: symbols 7447709821 to 7447714820]

## 7447709821
designator L?
SMD-Shielded Power Inductor WE-PD, L = 820 µH; PartNumber: 7447709821; Inductance: 820 µH; DatasheetVersion: ver 1, Jan-2007; PackageReference: WE-PD-XXL; PackageDescription: SMD Inductor, 2-Leads, Body 12.0 x 12.0 mm; ComponentLink1Description: Manufacturer URL; ComponentLink1URL: http://www.we-online.com; ComponentLink2Description: Datasheet; ComponentLink2URL: http://www.we-online.de/katalog/media/pdf/7447709821.pdf
footprint WE-PD-XXL (SMD Inductor, 2-Leads, Body 12.0x12.0x10.0 mm)
pins: 1, 2

## 7447713015
designator L?
SMD-Shielded Power Inductor WE-PD, L=1.50 µH; PartNumber: 7447713015; Inductance: 1.50 µH; PackageReference: WE-PD 1030; ComponentLink1Description: Manufacturer URL; ComponentLink1URL: http://www.we-online.com; ComponentLink2Description: Datasheet; ComponentLink2URL: http://www.we-online.de/katalog/media/pdf/7447713015.pdf
footprint WE-PD 1030 (SMD Inductor, 2-Leads, Body 10,0x10,0mm)
pins: 1, 2

## 7447713022
designator L?
SMD-Shielded Power Inductor WE-PD, L=2.20 µH; PartNumber: 7447713022; Inductance: 2.20 µH; PackageReference: WE-PD 1030; ComponentLink1Description: Manufacturer URL; ComponentLink1URL: http://www.we-online.com; ComponentLink2Description: Datasheet; ComponentLink2URL: http://www.we-online.de/katalog/media/pdf/7447713022.pdf
footprint WE-PD 1030 (SMD Inductor, 2-Leads, Body 10,0x10,0mm)
pins: 1, 2

## 7447713033
designator L?
SMD-Shielded Power Inductor WE-PD, L=3.30 µH; PartNumber: 7447713033; Inductance: 3.30 µH; PackageReference: WE-PD 1030; ComponentLink1Description: Manufacturer URL; ComponentLink1URL: http://www.we-online.com; ComponentLink2Description: Datasheet; ComponentLink2URL: http://www.we-online.de/katalog/media/pdf/7447713033.pdf
footprint WE-PD 1030 (SMD Inductor, 2-Leads, Body 10,0x10,0mm)
pins: 1, 2

## 7447713047
designator L?
SMD-Shielded Power Inductor WE-PD, L=4.70 µH; PartNumber: 7447713047; Inductance: 4.70 µH; PackageReference: WE-PD 1030; ComponentLink1Description: Manufacturer URL; ComponentLink1URL: http://www.we-online.com; ComponentLink2Description: Datasheet; ComponentLink2URL: http://www.we-online.de/katalog/media/pdf/7447713047.pdf
footprint WE-PD 1030 (SMD Inductor, 2-Leads, Body 10,0x10,0mm)
pins: 1, 2

## 7447713082
designator L?
SMD-Shielded Power Inductor WE-PD, L=8.20 µH; PartNumber: 7447713082; Inductance: 8.20 µH; PackageReference: WE-PD 1030; ComponentLink1Description: Manufacturer URL; ComponentLink1URL: http://www.we-online.com; ComponentLink2Description: Datasheet; ComponentLink2URL: http://www.we-online.de/katalog/media/pdf/7447713082.pdf
footprint WE-PD 1030 (SMD Inductor, 2-Leads, Body 10,0x10,0mm)
pins: 1, 2

## 7447713100
designator L?
SMD-Shielded Power Inductor WE-PD, L=10.0 µH; PartNumber: 7447713100; Inductance: 10.0 µH; PackageReference: WE-PD 1030; ComponentLink1Description: Manufacturer URL; ComponentLink1URL: http://www.we-online.com; ComponentLink2Description: Datasheet; ComponentLink2URL: http://www.we-online.de/katalog/media/pdf/7447713100.pdf
footprint WE-PD 1030 (SMD Inductor, 2-Leads, Body 10,0x10,0mm)
pins: 1, 2

## 7447713101
designator L?
SMD-Shielded Power Inductor WE-PD, L=100 µH; PartNumber: 7447713101; Inductance: 100 µH; PackageReference: WE-PD 1030; ComponentLink1Description: Manufacturer URL; ComponentLink1URL: http://www.we-online.com; ComponentLink2Description: Datasheet; ComponentLink2URL: http://www.we-online.de/katalog/media/pdf/7447713101.pdf
footprint WE-PD 1030 (SMD Inductor, 2-Leads, Body 10,0x10,0mm)
pins: 1, 2

## 7447713102
designator L?
SMD-Shielded Power Inductor WE-PD, L=1000 µH; PartNumber: 7447713102; Inductance: 1000 µH; PackageReference: WE-PD 1030; ComponentLink1Description: Manufacturer URL; ComponentLink1URL: http://www.we-online.com; ComponentLink2Description: Datasheet; ComponentLink2URL: http://www.we-online.de/katalog/media/pdf/7447713102.pdf
footprint WE-PD 1030 (SMD Inductor, 2-Leads, Body 10,0x10,0mm)
pins: 1, 2

## 7447713121
designator L?
SMD-Shielded Power Inductor WE-PD, L=120 µH; PartNumber: 7447713121; Inductance: 120 µH; PackageReference: WE-PD 1030; ComponentLink1Description: Manufacturer URL; ComponentLink1URL: http://www.we-online.com; ComponentLink2Description: Datasheet; ComponentLink2URL: http://www.we-online.de/katalog/media/pdf/7447713121.pdf
footprint WE-PD 1030 (SMD Inductor, 2-Leads, Body 10,0x10,0mm)
pins: 1, 2

## 7447713150
designator L?
SMD-Shielded Power Inductor WE-PD, L=15.0 µH; PartNumber: 7447713150; Inductance: 15.0 µH; PackageReference: WE-PD 1030; ComponentLink1Description: Manufacturer URL; ComponentLink1URL: http://www.we-online.com; ComponentLink2Description: Datasheet; ComponentLink2URL: http://www.we-online.de/katalog/media/pdf/7447713150.pdf
footprint WE-PD 1030 (SMD Inductor, 2-Leads, Body 10,0x10,0mm)
pins: 1, 2

## 7447713151
designator L?
SMD-Shielded Power Inductor WE-PD, L=150 µH; PartNumber: 7447713151; Inductance: 150 µH; PackageReference: WE-PD 1030; ComponentLink1Description: Manufacturer URL; ComponentLink1URL: http://www.we-online.com; ComponentLink2Description: Datasheet; ComponentLink2URL: http://www.we-online.de/katalog/media/pdf/7447713151.pdf
footprint WE-PD 1030 (SMD Inductor, 2-Leads, Body 10,0x10,0mm)
pins: 1, 2

## 7447713220
designator L?
SMD-Shielded Power Inductor WE-PD, L=22.0 µH; PartNumber: 7447713220; Inductance: 22.0 µH; PackageReference: WE-PD 1030; ComponentLink1Description: Manufacturer URL; ComponentLink1URL: http://www.we-online.com; ComponentLink2Description: Datasheet; ComponentLink2URL: http://www.we-online.de/katalog/media/pdf/7447713220.pdf
footprint WE-PD 1030 (SMD Inductor, 2-Leads, Body 10,0x10,0mm)
pins: 1, 2

## 7447713330
designator L?
SMD-Shielded Power Inductor WE-PD, L=33.0 µH; PartNumber: 7447713330; Inductance: 33.0 µH; PackageReference: WE-PD 1030; ComponentLink1Description: Manufacturer URL; ComponentLink1URL: http://www.we-online.com; ComponentLink2Description: Datasheet; ComponentLink2URL: http://www.we-online.de/katalog/media/pdf/7447713330.pdf
footprint WE-PD 1030 (SMD Inductor, 2-Leads, Body 10,0x10,0mm)
pins: 1, 2

## 7447713331
designator L?
SMD-Shielded Power Inductor WE-PD, L=330 µH; PartNumber: 7447713331; Inductance: 330 µH; PackageReference: WE-PD 1030; ComponentLink1Description: Manufacturer URL; ComponentLink1URL: http://www.we-online.com; ComponentLink2Description: Datasheet; ComponentLink2URL: http://www.we-online.de/katalog/media/pdf/7447713331.pdf
footprint WE-PD 1030 (SMD Inductor, 2-Leads, Body 10,0x10,0mm)
pins: 1, 2

## 7447713470
designator L?
SMD-Shielded Power Inductor WE-PD, L=47.0 µH; PartNumber: 7447713470; Inductance: 47.0 µH; PackageReference: WE-PD 1030; ComponentLink1Description: Manufacturer URL; ComponentLink1URL: http://www.we-online.com; ComponentLink2Description: Datasheet; ComponentLink2URL: http://www.we-online.de/katalog/media/pdf/7447713470.pdf
footprint WE-PD 1030 (SMD Inductor, 2-Leads, Body 10,0x10,0mm)
pins: 1, 2

## 7447713471
designator L?
SMD-Shielded Power Inductor WE-PD, L=470 µH; PartNumber: 7447713471; Inductance: 470 µH; PackageReference: WE-PD 1030; ComponentLink1Description: Manufacturer URL; ComponentLink1URL: http://www.we-online.com; ComponentLink2Description: Datasheet; ComponentLink2URL: http://www.we-online.de/katalog/media/pdf/7447713471.pdf
footprint WE-PD 1030 (SMD Inductor, 2-Leads, Body 10,0x10,0mm)
pins: 1, 2

## 7447713680
designator L?
SMD-Shielded Power Inductor WE-PD, L=68.0 µH; PartNumber: 7447713680; Inductance: 68.0 µH; PackageReference: WE-PD 1030; ComponentLink1Description: Manufacturer URL; ComponentLink1URL: http://www.we-online.com; ComponentLink2Description: Datasheet; ComponentLink2URL: http://www.we-online.de/katalog/media/pdf/7447713680.pdf
footprint WE-PD 1030 (SMD Inductor, 2-Leads, Body 10,0x10,0mm)
pins: 1, 2

## 7447713820
designator L?
SMD-Shielded Power Inductor WE-PD, L=82.0 µH; PartNumber: 7447713820; Inductance: 82.0 µH; PackageReference: WE-PD 1030; ComponentLink1Description: Manufacturer URL; ComponentLink1URL: http://www.we-online.com; ComponentLink2Description: Datasheet; ComponentLink2URL: http://www.we-online.de/katalog/media/pdf/7447713820.pdf
footprint WE-PD 1030 (SMD Inductor, 2-Leads, Body 10,0x10,0mm)
pins: 1, 2

## 7447714015
designator L?
SMD-Shielded Power Inductor WE-PD, L=1.50 µH; PartNumber: 7447714015; Inductance: 1.50 µH; PackageReference: WE-PD 1050; ComponentLink1Description: Manufacturer URL; ComponentLink1URL: http://www.we-online.com; ComponentLink2Description: Datasheet; ComponentLink2URL: http://www.we-online.de/katalog/media/pdf/7447714015.pdf
footprint WE-PD 1050 (SMD Inductor, 2-Leads, Body 10,0x10,0mm)
pins: 1, 2

## 7447714022
designator L?
SMD-Shielded Power Inductor WE-PD, L=2.20 µH; PartNumber: 7447714022; Inductance: 2.20 µH; PackageReference: WE-PD 1050; ComponentLink1Description: Manufacturer URL; ComponentLink1URL: http://www.we-online.com; ComponentLink2Description: Datasheet; ComponentLink2URL: http://www.we-online.de/katalog/media/pdf/7447714022.pdf
footprint WE-PD 1050 (SMD Inductor, 2-Leads, Body 10,0x10,0mm)
pins: 1, 2

## 7447714033
designator L?
SMD-Shielded Power Inductor WE-PD, L=3.30 µH; PartNumber: 7447714033; Inductance: 3.30 µH; PackageReference: WE-PD 1050; ComponentLink1Description: Manufacturer URL; ComponentLink1URL: http://www.we-online.com; ComponentLink2Description: Datasheet; ComponentLink2URL: http://www.we-online.de/katalog/media/pdf/7447714033.pdf
footprint WE-PD 1050 (SMD Inductor, 2-Leads, Body 10,0x10,0mm)
pins: 1, 2

## 7447714047
designator L?
SMD-Shielded Power Inductor WE-PD, L=4.70 µH; PartNumber: 7447714047; Inductance: 4.70 µH; PackageReference: WE-PD 1050; ComponentLink1Description: Manufacturer URL; ComponentLink1URL: http://www.we-online.com; ComponentLink2Description: Datasheet; ComponentLink2URL: http://www.we-online.de/katalog/media/pdf/7447714047.pdf
footprint WE-PD 1050 (SMD Inductor, 2-Leads, Body 10,0x10,0mm)
pins: 1, 2

## 7447714056
designator L?
SMD-Shielded Power Inductor WE-PD, L=5.60 µH; PartNumber: 7447714056; Inductance: 5.60 µH; PackageReference: WE-PD 1050; ComponentLink1Description: Manufacturer URL; ComponentLink1URL: http://www.we-online.com; ComponentLink2Description: Datasheet; ComponentLink2URL: http://www.we-online.de/katalog/media/pdf/7447714056.pdf
footprint WE-PD 1050 (SMD Inductor, 2-Leads, Body 10,0x10,0mm)
pins: 1, 2

## 7447714068
designator L?
SMD-Shielded Power Inductor WE-PD, L=6.80 µH; PartNumber: 7447714068; Inductance: 6.80 µH; PackageReference: WE-PD 1050; ComponentLink1Description: Manufacturer URL; ComponentLink1URL: http://www.we-online.com; ComponentLink2Description: Datasheet; ComponentLink2URL: http://www.we-online.de/katalog/media/pdf/7447714068.pdf
footprint WE-PD 1050 (SMD Inductor, 2-Leads, Body 10,0x10,0mm)
pins: 1, 2

## 7447714100
designator L?
SMD-Shielded Power Inductor WE-PD, L=10.0 µH; PartNumber: 7447714100; Inductance: 10.0 µH; PackageReference: WE-PD 1050; ComponentLink1Description: Manufacturer URL; ComponentLink1URL: http://www.we-online.com; ComponentLink2Description: Datasheet; ComponentLink2URL: http://www.we-online.de/katalog/media/pdf/7447714100.pdf
footprint WE-PD 1050 (SMD Inductor, 2-Leads, Body 10,0x10,0mm)
pins: 1, 2

## 7447714101
designator L?
SMD-Shielded Power Inductor WE-PD, L=100 µH; PartNumber: 7447714101; Inductance: 100 µH; PackageReference: WE-PD 1050; ComponentLink1Description: Manufacturer URL; ComponentLink1URL: http://www.we-online.com; ComponentLink2Description: Datasheet; ComponentLink2URL: http://www.we-online.de/katalog/media/pdf/7447714101.pdf
footprint WE-PD 1050 (SMD Inductor, 2-Leads, Body 10,0x10,0mm)
pins: 1, 2

## 7447714102
designator L?
SMD-Shielded Power Inductor WE-PD, L=1000 µH; PartNumber: 7447714102; Inductance: 1000 µH; PackageReference: WE-PD 1050; ComponentLink1Description: Manufacturer URL; ComponentLink1URL: http://www.we-online.com; ComponentLink2Description: Datasheet; ComponentLink2URL: http://www.we-online.de/katalog/media/pdf/7447714102.pdf
footprint WE-PD 1050 (SMD Inductor, 2-Leads, Body 10,0x10,0mm)
pins: 1, 2

## 7447714150
designator L?
SMD-Shielded Power Inductor WE-PD, L=15.0 µH; PartNumber: 7447714150; Inductance: 15.0 µH; PackageReference: WE-PD 1050; ComponentLink1Description: Manufacturer URL; ComponentLink1URL: http://www.we-online.com; ComponentLink2Description: Datasheet; ComponentLink2URL: http://www.we-online.de/katalog/media/pdf/7447714150.pdf
footprint WE-PD 1050 (SMD Inductor, 2-Leads, Body 10,0x10,0mm)
pins: 1, 2

## 7447714151
designator L?
SMD-Shielded Power Inductor WE-PD, L=150 µH; PartNumber: 7447714151; Inductance: 150 µH; PackageReference: WE-PD 1050; ComponentLink1Description: Manufacturer URL; ComponentLink1URL: http://www.we-online.com; ComponentLink2Description: Datasheet; ComponentLink2URL: http://www.we-online.de/katalog/media/pdf/7447714151.pdf
footprint WE-PD 1050 (SMD Inductor, 2-Leads, Body 10,0x10,0mm)
pins: 1, 2

## 7447714220
designator L?
SMD-Shielded Power Inductor WE-PD, L=22.0 µH; PartNumber: 7447714220; Inductance: 22.0 µH; PackageReference: WE-PD 1050; ComponentLink1Description: Manufacturer URL; ComponentLink1URL: http://www.we-online.com; ComponentLink2Description: Datasheet; ComponentLink2URL: http://www.we-online.de/katalog/media/pdf/7447714220.pdf
footprint WE-PD 1050 (SMD Inductor, 2-Leads, Body 10,0x10,0mm)
pins: 1, 2

## 7447714221
designator L?
SMD-Shielded Power Inductor WE-PD, L=220 µH; PartNumber: 7447714221; Inductance: 220 µH; PackageReference: WE-PD 1050; ComponentLink1Description: Manufacturer URL; ComponentLink1URL: http://www.we-online.com; ComponentLink2Description: Datasheet; ComponentLink2URL: http://www.we-online.de/katalog/media/pdf/7447714221.pdf
footprint WE-PD 1050 (SMD Inductor, 2-Leads, Body 10,0x10,0mm)
pins: 1, 2

## 7447714330
designator L?
SMD-Shielded Power Inductor WE-PD, L=33.0 µH; PartNumber: 7447714330; Inductance: 33.0 µH; PackageReference: WE-PD 1050; ComponentLink1Description: Manufacturer URL; ComponentLink1URL: http://www.we-online.com; ComponentLink2Description: Datasheet; ComponentLink2URL: http://www.we-online.de/katalog/media/pdf/7447714330.pdf
footprint WE-PD 1050 (SMD Inductor, 2-Leads, Body 10,0x10,0mm)
pins: 1, 2

## 7447714331
designator L?
SMD-Shielded Power Inductor WE-PD, L=330 µH; PartNumber: 7447714331; Inductance: 330 µH; PackageReference: WE-PD 1050; ComponentLink1Description: Manufacturer URL; ComponentLink1URL: http://www.we-online.com; ComponentLink2Description: Datasheet; ComponentLink2URL: http://www.we-online.de/katalog/media/pdf/7447714331.pdf
footprint WE-PD 1050 (SMD Inductor, 2-Leads, Body 10,0x10,0mm)
pins: 1, 2

## 7447714470
designator L?
SMD-Shielded Power Inductor WE-PD, L=47.0 µH; PartNumber: 7447714470; Inductance: 47.0 µH; PackageReference: WE-PD 1050; ComponentLink1Description: Manufacturer URL; ComponentLink1URL: http://www.we-online.com; ComponentLink2Description: Datasheet; ComponentLink2URL: http://www.we-online.de/katalog/media/pdf/7447714470.pdf
footprint WE-PD 1050 (SMD Inductor, 2-Leads, Body 10,0x10,0mm)
pins: 1, 2

## 7447714471
designator L?
SMD-Shielded Power Inductor WE-PD, L=470 µH; PartNumber: 7447714471; Inductance: 470 µH; PackageReference: WE-PD 1050; ComponentLink1Description: Manufacturer URL; ComponentLink1URL: http://www.we-online.com; ComponentLink2Description: Datasheet; ComponentLink2URL: http://www.we-online.de/katalog/media/pdf/7447714471.pdf
footprint WE-PD 1050 (SMD Inductor, 2-Leads, Body 10,0x10,0mm)
pins: 1, 2